# EAGLE library part 742C163220JP (library Resistor Array)
RES ARRAY 8 RES 22 OHM 2506 Manufacturer's datasheet <https://www.ctscorp.com/wp-content/uploads/74x.pdf>
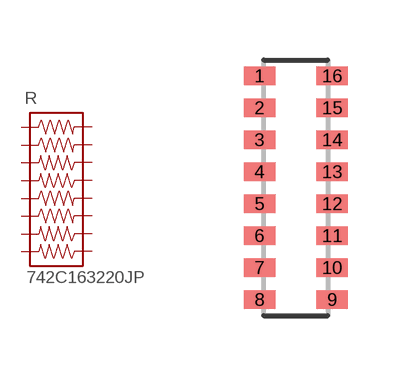
[diagram p3: symbol with the pads of 742C163220JP; footprint 742C163220JP]

Designator prefix R

## 742C163220JP (CREATED_BY: PCBLayout.com; DIGIKEY_PARTNO: 742C163220JPTR-ND; MANUFACTURER: CTS Resistor Products; MPN: 742C163220JP; PACKAGE: 2506)  [742C163220JP]
1  1  pas
2  2  pas
3  3  pas
4  4  pas
5  5  pas
6  6  pas
7  7  pas
8  8  pas
9  9  pas
10  10  pas
11  11  pas
12  12  pas
13  13  pas
14  14  pas
15  15  pas
16  16  pas

## Footprint 742C163220JP (pad centres in mm)
16-Chiparray 2-Side Flat, 0.80 mm pitch, 6.40 X 1.60 X 0.53 mm body 16-pin Chiparray 2-Side Flat package with 0.80 mm pitch with body size 6.40 X 1.60 X 0.53 mm
smd 0.792 x 0.472: 1 -0.91,2.8; 2 -0.91,2; 3 -0.91,1.2; 4 -0.91,0.4; 5 -0.91,-0.4; 6 -0.91,-1.2; 7 -0.91,-2; 8 -0.91,-2.8; 9 0.91,-2.8; 10 0.91,-2; 11 0.91,-1.2; 12 0.91,-0.4; 13 0.91,0.4; 14 0.91,1.2; 15 0.91,2; 16 0.91,2.8